# Altium footprint library AZR_LIB_PCB.PcbLib: 23 footprints (part 1 of 2)
Each footprint in its own frame and in the unit in brackets; x right, y up, seen from the top. Pads: shape width x height; smd on the part's side, far side on the other; paste and mask are expansions set on the pad; w line width, h text height; cw(c..) or ccw(c..) is an arc to the next point about the centre after c.
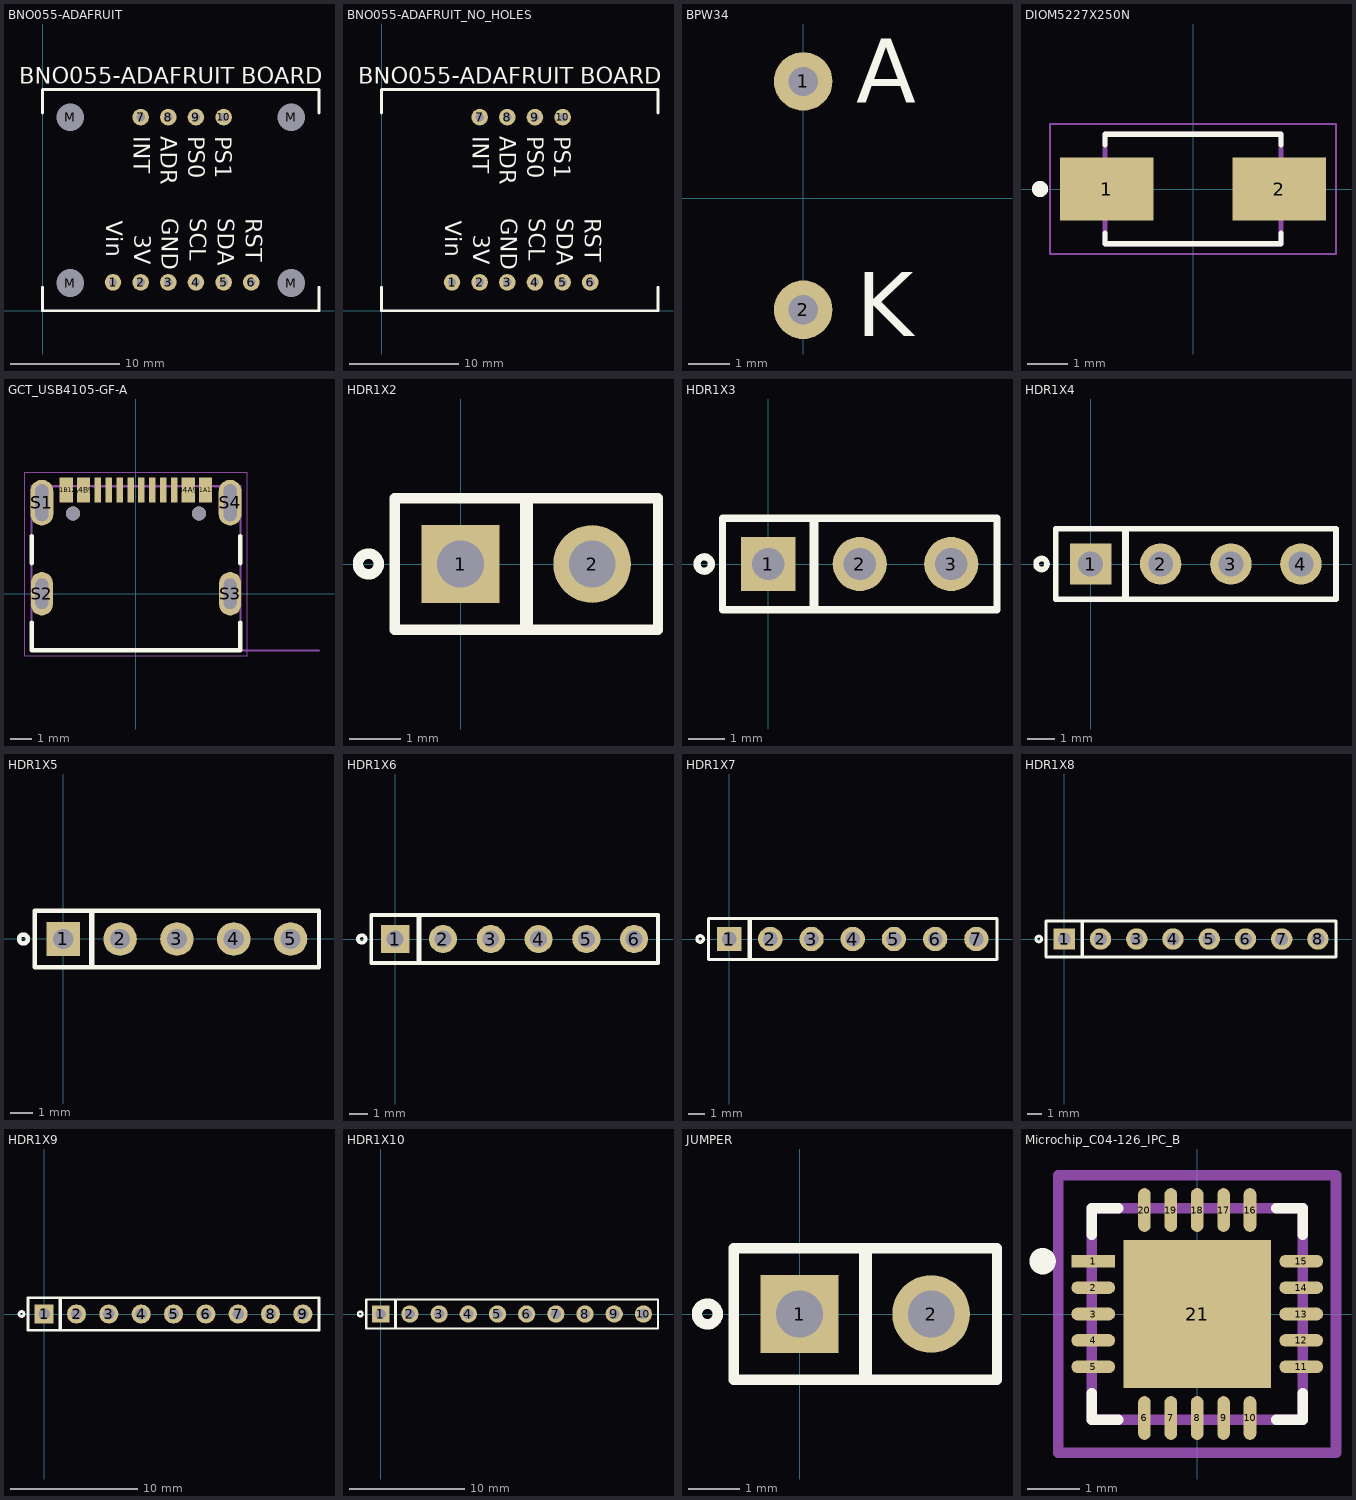
[diagram p0: the footprints below, top view; thin cyan lines are the x and y axes]

## BNO055-ADAFRUIT [mil]
pads (14):
  round 60 hole 30: 1(255,102.5) 2(355,102.5) 3(455,102.5) 4(555,102.5) 5(655,102.5) 6(755,102.5) 7(355,700.02) 8(455,700.02) 9(555,700.02) 10(655,700.02)
  round 60 hole 100: M(100,100) M(100,700) M(900,100) M(900,700)
Top Overlay:
  lines w10: 0,85 0,0 1000,0 1000,85 ; 0,715 0,800 1000,800 1000,715
  text "BNO055-ADAFRUIT BOARD" at -85,820 h60
  text "Vin" at 230,325 h60
  text "3V" at 331,275.02 h60
  text "GND" at 432,335 h60
  text "SCL" at 533,335 h60
  text "SDA" at 634,335 h60
  text "RST" at 735,335 h60
  text "INT" at 330,629.99 h60
  text "ADR" at 428.33,629.99 h60
  text "PS0" at 526.67,629.99 h60
  text "PS1" at 625,629.99 h60
3D body "Header_4.STEP": height 334.65, standoff -82.42, extent 405.81,52.39 805.81,152.39
3D body "Header_4.STEP": height 334.65, standoff -82.42, extent 205.81,52.39 605.81,152.39
3D body "Header_4.STEP": height 334.65, standoff -82.42, extent 305.81,652.39 705.81,752.39
3D body "Adafruit BNO055 STEMMA QT.step": height 519.68, standoff 338.58, extent 5,2.5 1005,802.5

## BNO055-ADAFRUIT_NO_HOLES [mil]
pads (10):
  round 60 hole 30: 1(255,102.5) 2(355,102.5) 3(455,102.5) 4(555,102.5) 5(655,102.5) 6(755,102.5) 7(355,700.02) 8(455,700.02) 9(555,700.02) 10(655,700.02)
Top Overlay:
  lines w10: 0,85 0,0 1000,0 1000,85 ; 0,715 0,800 1000,800 1000,715
  text "BNO055-ADAFRUIT BOARD" at -85,820 h60
  text "Vin" at 230,325 h60
  text "3V" at 331,275.02 h60
  text "GND" at 432,335 h60
  text "SCL" at 533,335 h60
  text "SDA" at 634,335 h60
  text "RST" at 735,335 h60
  text "INT" at 330,629.99 h60
  text "ADR" at 428.33,629.99 h60
  text "PS0" at 526.67,629.99 h60
  text "PS1" at 625,629.99 h60
3D body "Header_4.STEP": height 334.65, standoff -82.42, extent 305.81,652.39 705.81,752.39
3D body "Header_4.STEP": height 334.65, standoff -82.42, extent 205.81,52.39 605.81,152.39
3D body "Header_4.STEP": height 334.65, standoff -82.42, extent 405.81,52.39 805.81,152.39
3D body "Adafruit BNO055 STEMMA QT.step": height 519.68, standoff 338.58, extent 5,2.5 1005,802.5

## BPW34 [mm]
pads (2):
  round 1.4 hole 0.7: 1(0,2.794) 2(0,-2.667)
Top Overlay:
  text "." at -1.651,3.302 h1.52
  text "K" at 1.27,-3.302 h1.52
  text "A" at 1.27,2.286 h1.52
3D body "bpw34.STEP": height 3.09, standoff -2.11, extent -2.176,-2.65 2.224,2.75

## DIOM5227X250N [mm]
height 2.5
pads (2):
  rect 2.33x1.56 smd paste+0 mask+0.102: 1(-2.145,0) 2(2.145,0)
Top Overlay:
  circle w0.2: c-3.81,0 r0.1
  lines w0.127: -2.187,-1.1 -2.187,-1.362 2.187,-1.362 2.187,-1.1 ; -2.187,1.1 -2.187,1.362 2.187,1.362 2.187,1.1
Top 3D Body:
  circle w0.2: c-3.81,0 r0.1
  lines w0.127: -2.187,-1.362 2.187,-1.362 2.187,1.362 -2.187,1.362 -2.187,-1.362
Top Courtyard:
  lines w0.05: -3.56,-1.613 3.56,-1.613 3.56,1.613 -3.56,1.613 -3.56,-1.613
3D body "step_temp.STEP": height 2.37, standoff 0.2, extent -2.525,-1.303 2.525,1.397

## GCT_USB4105-GF-A [mm]
height 3.31
pads (18):
  rect 0.6x1.15 smd: A1B12(-3.2,4.755) A4B9(-2.4,4.755) B1A12(3.2,4.755) B4A9(2.4,4.755)
  rect 0.3x1.15 smd: A5(-1.25,4.755) A6(-0.25,4.755) A7(0.25,4.755) A8(1.25,4.755) B5(1.75,4.755) B6(0.75,4.755) B7(-0.75,4.755) B8(-1.75,4.755)
  oval 1.05x2.1 hole 0.6 slot 1.7 at 90 deg: S1(-4.32,4.18) S4(4.32,4.18)
  oval 1x2 hole 0.6 slot 1.4 at 90 deg: S2(-4.32,0) S3(4.32,0)
  round 0.65 hole 0.65 unplated: ""(-2.89,3.68) ""(2.89,3.68)
Top Overlay:
  lines w0.2: -4.79,-1.32 -4.79,-2.6 4.79,-2.6 4.79,-1.32 ; -4.79,1.4 -4.79,2.65 ; 4.79,1.4 4.79,2.65
Top 3D Body:
  lines w0.1: 4.8,-2.6 8.4,-2.6 ; -4.79,-2.6 4.79,-2.6 4.79,4.93 -4.79,4.93 -4.79,-2.6
  text "PCB EDGE" at 5.4,-2.5 h0.41
Top Courtyard:
  lines w0.05: -5.1,-2.85 -5.1,5.58 5.1,5.58 5.1,-2.85 -5.1,-2.85
3D body "USB4105-15-A.stp": height 3.26, standoff -0.95, extent -4.47,-2.591 4.47,5.109

## HDR1X2 [mm] "Connector; Header; 2 Position"
pads (2):
  rect 1.5x1.5 hole 0.9: 1(0,0)
  round 1.5 hole 0.9: 2(2.54,0)
Top Overlay:
  circle w0.2: c-1.778,0 r0.2
  lines w0.2: -1.27,-1.27 3.81,-1.27 3.81,1.27 -1.27,1.27 -1.27,-1.27
  lines w0.254: 1.27,-1.143 1.27,1.143
3D body "Pin Header 1x2 TH Pitch 2.54mm.stp": height 9.5, standoff -3.2, extent -1.27,-1.27 3.81,1.27

## HDR1X3 [mm] "Connector; Header; 3 Position"
pads (3):
  rect 1.5x1.5 hole 0.9: 1(0,0)
  round 1.5 hole 0.9: 2(2.54,0) 3(5.08,0)
Top Overlay:
  circle w0.2: c-1.778,0 r0.2
  lines w0.2: -1.27,-1.27 -1.27,1.27 6.35,1.27 6.35,-1.27 -1.27,-1.27
  lines w0.254: 1.27,-1.143 1.27,1.143
3D body "Pin Header 1x3 TH Pitch 2.54mm.stp": height 9.5, standoff -3.2, extent -1.27,-1.27 6.35,1.27

## HDR1X4 [mm] "Connector; Header; 4 Position"
pads (4):
  rect 1.5x1.5 hole 0.9: 1(0,0)
  round 1.5 hole 0.9: 2(2.54,0) 3(5.08,0) 4(7.62,0)
Top Overlay:
  circle w0.2: c-1.778,0 r0.2
  lines w0.2: -1.27,-1.27 -1.27,1.27 8.89,1.27 8.89,-1.27 -1.27,-1.27
  lines w0.254: 1.27,-1.143 1.27,1.143
3D body "Pin Header 1x4 TH Pitch 2.54mm.stp": height 9.5, standoff -3.2, extent -1.27,-1.27 8.89,1.27

## HDR1X5 [mm] "Connector; Header; 5 Position"
pads (5):
  rect 1.5x1.5 hole 0.9: 1(0,0)
  round 1.5 hole 0.9: 2(2.54,0) 3(5.08,0) 4(7.62,0) 5(10.16,0)
Top Overlay:
  circle w0.2: c-1.778,0 r0.2
  lines w0.2: -1.27,-1.27 11.43,-1.27 11.43,1.27 -1.27,1.27 -1.27,-1.27
  lines w0.254: 1.27,-1.143 1.27,1.143
3D body "Pin Header 1x5 TH Pitch 2.54mm.stp": height 9.5, standoff -3.2, extent -1.27,-1.27 11.43,1.27

## HDR1X6 [mm] "Connector; Header; 6 Position"
pads (6):
  rect 1.5x1.5 hole 0.9: 1(0,0)
  round 1.5 hole 0.9: 2(2.54,0) 3(5.08,0) 4(7.62,0) 5(10.16,0) 6(12.7,0)
Top Overlay:
  circle w0.2: c-1.778,0 r0.2
  lines w0.2: -1.27,-1.27 -1.27,1.27 13.97,1.27 13.97,-1.27 -1.27,-1.27
  lines w0.254: 1.27,-1.143 1.27,1.143
3D body "Pin Header 1x6 TH Pitch 2.54mm.stp": height 9.5, standoff -3.2, extent -1.27,-1.27 13.97,1.27

## HDR1X7 [mm] "Connector; Header; 7 Position"
pads (7):
  rect 1.5x1.5 hole 0.9: 1(0,0)
  round 1.5 hole 0.9: 2(2.54,0) 3(5.08,0) 4(7.62,0) 5(10.16,0) 6(12.7,0) 7(15.24,0)
Top Overlay:
  circle w0.2: c-1.778,0 r0.2
  lines w0.2: -1.27,-1.27 -1.27,1.27 16.51,1.27 16.51,-1.27 -1.27,-1.27
  lines w0.254: 1.27,-1.143 1.27,1.143
3D body "Pin Header 1x7 TH Pitch 2.54mm.stp": height 9.5, standoff -3.2, extent -1.27,-1.27 16.51,1.27

## HDR1X8 [mm] "Connector; Header; 8 Position"
pads (8):
  rect 1.5x1.5 hole 0.9: 1(0,0)
  round 1.5 hole 0.9: 2(2.54,0) 3(5.08,0) 4(7.62,0) 5(10.16,0) 6(12.7,0) 7(15.24,0) 8(17.78,0)
Top Overlay:
  circle w0.2: c-1.778,0 r0.2
  lines w0.2: -1.27,-1.27 19.05,-1.27 19.05,1.27 -1.27,1.27 -1.27,-1.27
  lines w0.254: 1.27,-1.143 1.27,1.143
3D body "Pin Header 1x8 TH Pitch 2.54mm.stp": height 9.5, standoff -3.2, extent -1.27,-1.27 19.05,1.27

## HDR1X9 [mm] "Connector; Header; 9 Position"
pads (9):
  rect 1.5x1.5 hole 0.9: 1(0,0)
  round 1.5 hole 0.9: 2(2.54,0) 3(5.08,0) 4(7.62,0) 5(10.16,0) 6(12.7,0) 7(15.24,0) 8(17.78,0) 9(20.32,0)
Top Overlay:
  circle w0.2: c-1.778,0 r0.2
  lines w0.2: -1.27,-1.27 -1.27,1.27 21.59,1.27 21.59,-1.27 -1.27,-1.27
  lines w0.254: 1.27,-1.143 1.27,1.143
3D body "Pin Header 1x9 TH Pitch 2.54mm.stp": height 9.5, standoff -3.2, extent -1.27,-1.27 21.59,1.27

## HDR1X10 [mm] "Connector; Header; 10 Position"
pads (10):
  rect 1.5x1.5 hole 0.9: 1(0,0)
  round 1.5 hole 0.9: 2(2.54,0) 3(5.08,0) 4(7.62,0) 5(10.16,0) 6(12.7,0) 7(15.24,0) 8(17.78,0) 9(20.32,0) 10(22.86,0)
Top Overlay:
  circle w0.2: c-1.778,0 r0.2
  lines w0.2: -1.27,-1.27 24.13,-1.27 24.13,1.27 0.635,1.27 -1.27,1.27 -1.27,-1.27
  lines w0.254: 1.27,-1.143 1.27,1.143
3D body "Pin Header 1x10 TH Pitch 2.54mm.stp": height 9.5, standoff -3.2, extent -1.27,-1.27 24.13,1.27

## JUMPER [mm] "Connector; Header; 2 Position"
pads (2):
  rect 1.5x1.5 hole 0.9: 1(0,0)
  round 1.5 hole 0.9: 2(2.54,0)
Top Overlay:
  circle w0.2: c-1.778,0 r0.2
  lines w0.2: -1.27,-1.27 3.81,-1.27 3.81,1.27 -1.27,1.27 -1.27,-1.27
  lines w0.254: 1.27,-1.143 1.27,1.143
3D body "Jumper2.step": height 8.6, standoff -3, extent -1.33,-1.27 3.87,1.27

## Microchip_C04-126_IPC_B [mm]
pads (21):
  rect 0.829x0.239 smd paste+0 mask+0: 1(-1.97,1)
  rrect100% 0.829x0.239 smd paste+0 mask+0: 2(-1.97,0.5) 3(-1.97,0) 4(-1.97,-0.5) 5(-1.97,-1) 11(1.97,-1) 12(1.97,-0.5) 13(1.97,0) 14(1.97,0.5) 15(1.97,1)
  rrect100% 0.239x0.829 smd paste+0 mask+0: 6(-1,-1.97) 7(-0.5,-1.97) 8(0,-1.97) 9(0.5,-1.97) 10(1,-1.97) 16(1,1.97) 17(0.5,1.97) 18(0,1.97) 19(-0.5,1.97) 20(-1,1.97)
  rect 2.8x2.8 smd paste-1000 mask+0: 21(0,0)
Top Overlay:
  circle w0.25: c-2.929,1 r0.125
  lines w0.2: -2,-1.5 -2,-2 -1.5,-2 ; -2,1.5 -2,2 -1.5,2 ; 1.5,-2 2,-2 2,-1.5 ; 1.5,2 2,2 2,1.5
Top Paste:
  rectangle: -0.885,-0.885 0.885,0.885
Mechanical 12:
  lines w0.2: -2,-2 2,-2 2,2 -2,2 -2,-2
Top Courtyard:
  lines w0.1: -0.5,0 0.5,0 ; 0,-0.5 0,0.5
  lines w0.2: -2.629,-2.629 2.629,-2.629 ; -2.629,-2.629 -2.629,2.629 ; -2.629,-2.629 2.629,-2.629 ; -2.629,-2.629 -2.629,2.629 ; -2.629,2.629 2.629,2.629 ; -2.629,2.629 2.629,2.629 ; 2.629,-2.629 2.629,2.629 ; 2.629,-2.629 2.629,2.629
  text ".Designator" at 0,0.188 h1
3D body "IC_Microchip_MCP73871T-2CCI-ML_eec.STEP": height 0.25, standoff 0, extent -2.54,-2.502 2.718,2.756